# EAGLE library part 74595 (library 74595)
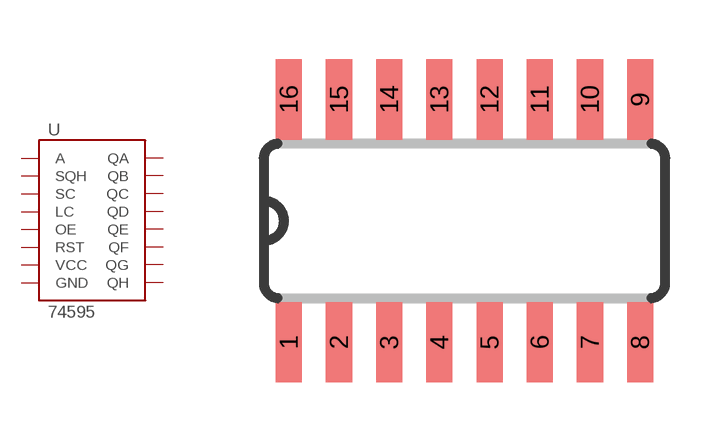
[diagram p0: symbol with the pads of 16-TSSOP; footprint 16-TSSOP]

Designator prefix U

## 74595  [16-TSSOP]
1  QB
2  QC
3  QD
4  QE
5  QF
6  QG
7  QH
8  GND
9  SQH
10  RST
11  SC
12  LC
13  OE
14  A
15  QA
16  VCC

## Footprint 16-TSSOP (pad centres in mm)
smd 0.66 x 2.032: 1 -3.302,-3.073; 2 -2.032,-3.073; 3 -0.762,-3.073; 4 0.508,-3.073; 5 1.778,-3.073; 6 3.048,-3.073; 7 4.318,-3.073; 8 5.588,-3.073; 9 5.588,3.073; 10 4.318,3.073; 11 3.048,3.073; 12 1.778,3.073; 13 0.508,3.073; 14 -0.762,3.073; 15 -2.032,3.073; 16 -3.302,3.073